# Altium schematic symbol library spacemonochrome-WR_TBL.SchLib: 1696 symbols (part 27 of 28)
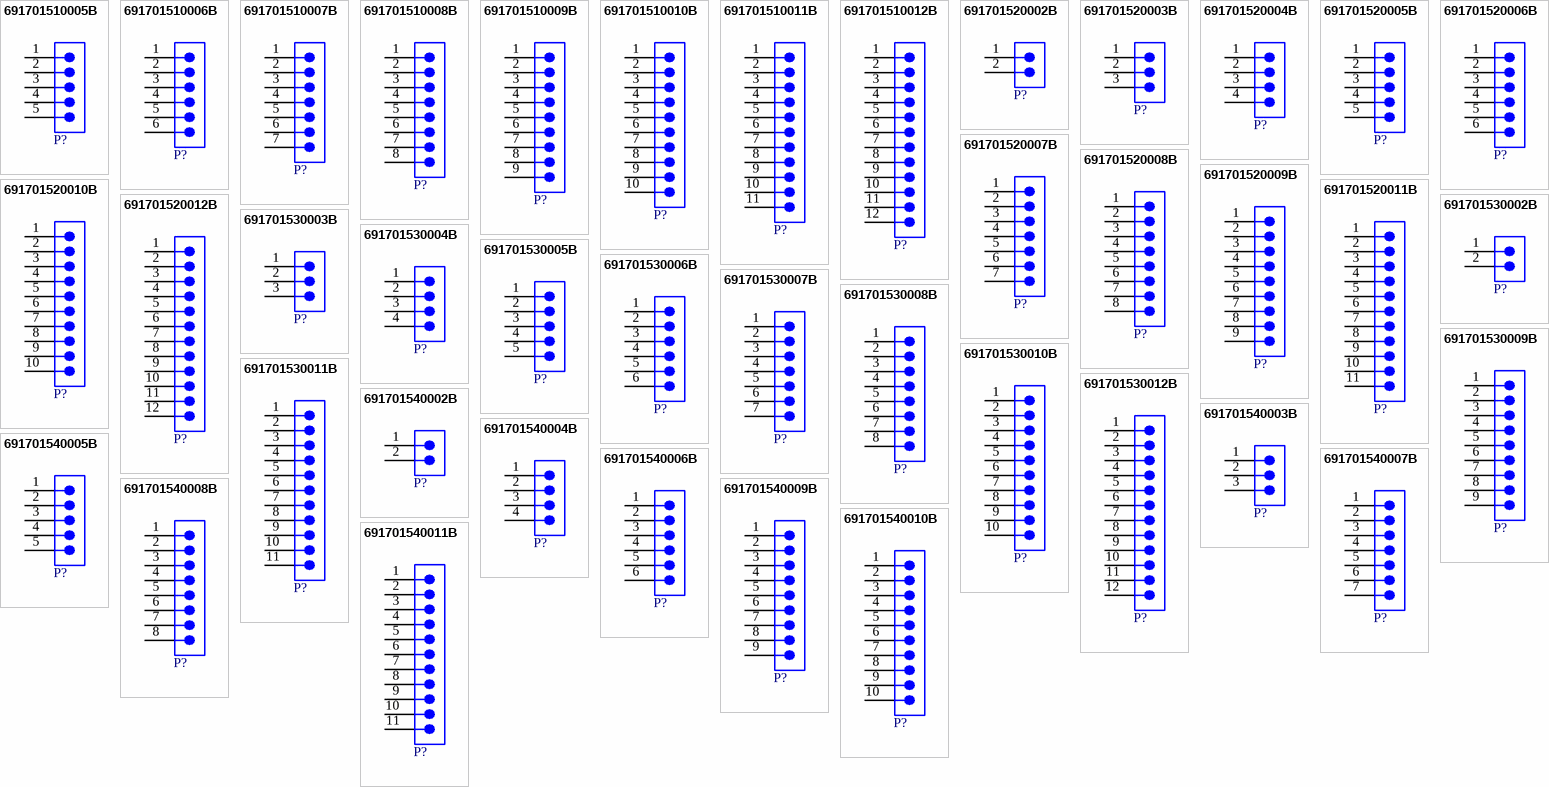
[diagram p68: symbols 691701510005B to 691701540011B]

## 691701520012B
designator P?  (value not drawn)
WR-TBL Series 7015B Close Vertical PCB Header with Flanges, SMT, pitch 5.08mm, 12p; Manufacturer: Wurth Elektronik; Modularity: No; Rated Current: 10A; Working Voltage: 300V; ComponentLink1Description: Website Link; ComponentLink1URL: https://www.we-online.com/redexpert/article/691701520012B?ad; ComponentLink2Description: Datasheet Link; ComponentLink2URL: https://www.we-online.com/redexpert/spec/691701520012B?ad; Manufacturer Part Number: 691701520012B; Category: Terminal Blocks; Match Code: WR-TBL; Mount: Surface Mount; Operating Temperature Max: 105°C; Operating Temperature Min: -40°C; Packaging: Box; Application: Pluggable; Number of Pins: 12; Number of Rows: 1; Orientation: Vertical; Pitch: 5.08mm
footprint 691701520012B
pins: 1, 2, 3, 4, 5, 6, 7, 8, 9, 10, 11, 12

## 691701530002B
designator P?  (value not drawn)
WR-TBL Series 7015B Open Horizontal PCB Header, SMT, pitch 5.08mm, 2p; Manufacturer: Wurth Elektronik; Modularity: No; Rated Current: 10A; Working Voltage: 300V; ComponentLink1Description: Website Link; ComponentLink1URL: https://www.we-online.com/redexpert/article/691701530002B?ad; ComponentLink2Description: Datasheet Link; ComponentLink2URL: https://www.we-online.com/redexpert/spec/691701530002B?ad; Manufacturer Part Number: 691701530002B; Category: Terminal Blocks; Match Code: WR-TBL; Mount: Surface Mount; Operating Temperature Max: 105°C; Operating Temperature Min: -40°C; Packaging: Box; Application: Pluggable; Number of Pins: 2; Number of Rows: 1; Orientation: Horizontal; Pitch: 5.08mm
footprint 691701530002B
pins: 1, 2

## 691701530003B
designator P?  (value not drawn)
WR-TBL Series 7015B Open Horizontal PCB Header, SMT, pitch 5.08mm, 3p; Manufacturer: Wurth Elektronik; Modularity: No; Rated Current: 10A; Working Voltage: 300V; ComponentLink1Description: Website Link; ComponentLink1URL: https://www.we-online.com/redexpert/article/691701530003B?ad; ComponentLink2Description: Datasheet Link; ComponentLink2URL: https://www.we-online.com/redexpert/spec/691701530003B?ad; Manufacturer Part Number: 691701530003B; Category: Terminal Blocks; Match Code: WR-TBL; Mount: Surface Mount; Operating Temperature Max: 105°C; Operating Temperature Min: -40°C; Packaging: Box; Application: Pluggable; Number of Pins: 3; Number of Rows: 1; Orientation: Horizontal; Pitch: 5.08mm
footprint 691701530003B
pins: 1, 2, 3

## 691701530004B
designator P?  (value not drawn)
WR-TBL Series 7015B Open Horizontal PCB Header, SMT, pitch 5.08mm, 4p; Manufacturer: Wurth Elektronik; Modularity: No; Rated Current: 10A; Working Voltage: 300V; ComponentLink1Description: Website Link; ComponentLink1URL: https://www.we-online.com/redexpert/article/691701530004B?ad; ComponentLink2Description: Datasheet Link; ComponentLink2URL: https://www.we-online.com/redexpert/spec/691701530004B?ad; Manufacturer Part Number: 691701530004B; Category: Terminal Blocks; Match Code: WR-TBL; Mount: Surface Mount; Operating Temperature Max: 105°C; Operating Temperature Min: -40°C; Packaging: Box; Application: Pluggable; Number of Pins: 4; Number of Rows: 1; Orientation: Horizontal; Pitch: 5.08mm
footprint 691701530004B
pins: 1, 2, 3, 4

## 691701530005B
designator P?  (value not drawn)
WR-TBL Series 7015B Open Horizontal PCB Header, SMT, pitch 5.08mm, 5p; Manufacturer: Wurth Elektronik; Modularity: No; Rated Current: 10A; Working Voltage: 300V; ComponentLink1Description: Website Link; ComponentLink1URL: https://www.we-online.com/redexpert/article/691701530005B?ad; ComponentLink2Description: Datasheet Link; ComponentLink2URL: https://www.we-online.com/redexpert/spec/691701530005B?ad; Manufacturer Part Number: 691701530005B; Category: Terminal Blocks; Match Code: WR-TBL; Mount: Surface Mount; Operating Temperature Max: 105°C; Operating Temperature Min: -40°C; Packaging: Box; Application: Pluggable; Number of Pins: 5; Number of Rows: 1; Orientation: Horizontal; Pitch: 5.08mm
footprint 691701530005B
pins: 1, 2, 3, 4, 5

## 691701530006B
designator P?  (value not drawn)
WR-TBL Series 7015B Open Horizontal PCB Header, SMT, pitch 5.08mm, 6p; Manufacturer: Wurth Elektronik; Modularity: No; Rated Current: 10A; Working Voltage: 300V; ComponentLink1Description: Website Link; ComponentLink1URL: https://www.we-online.com/redexpert/article/691701530006B?ad; ComponentLink2Description: Datasheet Link; ComponentLink2URL: https://www.we-online.com/redexpert/spec/691701530006B?ad; Manufacturer Part Number: 691701530006B; Category: Terminal Blocks; Match Code: WR-TBL; Mount: Surface Mount; Operating Temperature Max: 105°C; Operating Temperature Min: -40°C; Packaging: Box; Application: Pluggable; Number of Pins: 6; Number of Rows: 1; Orientation: Horizontal; Pitch: 5.08mm
footprint 691701530006B
pins: 1, 2, 3, 4, 5, 6

## 691701530007B
designator P?  (value not drawn)
WR-TBL Series 7015B Open Horizontal PCB Header, SMT, pitch 5.08mm, 7p; Manufacturer: Wurth Elektronik; Modularity: No; Rated Current: 10A; Working Voltage: 300V; ComponentLink1Description: Website Link; ComponentLink1URL: https://www.we-online.com/redexpert/article/691701530007B?ad; ComponentLink2Description: Datasheet Link; ComponentLink2URL: https://www.we-online.com/redexpert/spec/691701530007B?ad; Manufacturer Part Number: 691701530007B; Category: Terminal Blocks; Match Code: WR-TBL; Mount: Surface Mount; Operating Temperature Max: 105°C; Operating Temperature Min: -40°C; Packaging: Box; Application: Pluggable; Number of Pins: 7; Number of Rows: 1; Orientation: Horizontal; Pitch: 5.08mm
footprint 691701530007B
pins: 1, 2, 3, 4, 5, 6, 7

## 691701530008B
designator P?  (value not drawn)
WR-TBL Series 7015B Open Horizontal PCB Header, SMT, pitch 5.08mm, 8p; Manufacturer: Wurth Elektronik; Modularity: No; Rated Current: 10A; Working Voltage: 300V; ComponentLink1Description: Website Link; ComponentLink1URL: https://www.we-online.com/redexpert/article/691701530008B?ad; ComponentLink2Description: Datasheet Link; ComponentLink2URL: https://www.we-online.com/redexpert/spec/691701530008B?ad; Manufacturer Part Number: 691701530008B; Category: Terminal Blocks; Match Code: WR-TBL; Mount: Surface Mount; Operating Temperature Max: 105°C; Operating Temperature Min: -40°C; Packaging: Box; Application: Pluggable; Number of Pins: 8; Number of Rows: 1; Orientation: Horizontal; Pitch: 5.08mm
footprint 691701530008B
pins: 1, 2, 3, 4, 5, 6, 7, 8

## 691701530009B
designator P?  (value not drawn)
WR-TBL Series 7015B Open Horizontal PCB Header, SMT, pitch 5.08mm, 9p; Manufacturer: Wurth Elektronik; Modularity: No; Rated Current: 10A; Working Voltage: 300V; ComponentLink1Description: Website Link; ComponentLink1URL: https://www.we-online.com/redexpert/article/691701530009B?ad; ComponentLink2Description: Datasheet Link; ComponentLink2URL: https://www.we-online.com/redexpert/spec/691701530009B?ad; Manufacturer Part Number: 691701530009B; Category: Terminal Blocks; Match Code: WR-TBL; Mount: Surface Mount; Operating Temperature Max: 105°C; Operating Temperature Min: -40°C; Packaging: Box; Application: Pluggable; Number of Pins: 9; Number of Rows: 1; Orientation: Horizontal; Pitch: 5.08mm
footprint 691701530009B
pins: 1, 2, 3, 4, 5, 6, 7, 8, 9

## 691701530010B
designator P?  (value not drawn)
WR-TBL Series 7015B Open Horizontal PCB Header, SMT, pitch 5.08mm, 10p; Manufacturer: Wurth Elektronik; Modularity: No; Rated Current: 10A; Working Voltage: 300V; ComponentLink1Description: Website Link; ComponentLink1URL: https://www.we-online.com/redexpert/article/691701530010B?ad; ComponentLink2Description: Datasheet Link; ComponentLink2URL: https://www.we-online.com/redexpert/spec/691701530010B?ad; Manufacturer Part Number: 691701530010B; Category: Terminal Blocks; Match Code: WR-TBL; Mount: Surface Mount; Operating Temperature Max: 105°C; Operating Temperature Min: -40°C; Packaging: Box; Application: Pluggable; Number of Pins: 10; Number of Rows: 1; Orientation: Horizontal; Pitch: 5.08mm
footprint 691701530010B
pins: 1, 2, 3, 4, 5, 6, 7, 8, 9, 10

## 691701530011B
designator P?  (value not drawn)
WR-TBL Series 7015B Open Horizontal PCB Header, SMT, pitch 5.08mm, 11p; Manufacturer: Wurth Elektronik; Modularity: No; Rated Current: 10A; Working Voltage: 300V; ComponentLink1Description: Website Link; ComponentLink1URL: https://www.we-online.com/redexpert/article/691701530011B?ad; ComponentLink2Description: Datasheet Link; ComponentLink2URL: https://www.we-online.com/redexpert/spec/691701530011B?ad; Manufacturer Part Number: 691701530011B; Category: Terminal Blocks; Match Code: WR-TBL; Mount: Surface Mount; Operating Temperature Max: 105°C; Operating Temperature Min: -40°C; Packaging: Box; Application: Pluggable; Number of Pins: 11; Number of Rows: 1; Orientation: Horizontal; Pitch: 5.08mm
footprint 691701530011B
pins: 1, 2, 3, 4, 5, 6, 7, 8, 9, 10, 11

## 691701530012B
designator P?  (value not drawn)
WR-TBL Series 7015B Open Horizontal PCB Header, SMT, pitch 5.08mm, 12p; Manufacturer: Wurth Elektronik; Modularity: No; Rated Current: 10A; Working Voltage: 300V; ComponentLink1Description: Website Link; ComponentLink1URL: https://www.we-online.com/redexpert/article/691701530012B?ad; ComponentLink2Description: Datasheet Link; ComponentLink2URL: https://www.we-online.com/redexpert/spec/691701530012B?ad; Manufacturer Part Number: 691701530012B; Category: Terminal Blocks; Match Code: WR-TBL; Mount: Surface Mount; Operating Temperature Max: 105°C; Operating Temperature Min: -40°C; Packaging: Box; Application: Pluggable; Number of Pins: 12; Number of Rows: 1; Orientation: Horizontal; Pitch: 5.08mm
footprint 691701530012B
pins: 1, 2, 3, 4, 5, 6, 7, 8, 9, 10, 11, 12

## 691701540002B
designator P?  (value not drawn)
WR-TBL Series 7015B Close Horizontal PCB Header, SMT, pitch 5.08mm, 2p; Manufacturer: Wurth Elektronik; Modularity: No; Rated Current: 10A; Working Voltage: 300V; ComponentLink1Description: Website Link; ComponentLink1URL: https://www.we-online.com/redexpert/article/691701540002B?ad; ComponentLink2Description: Datasheet Link; ComponentLink2URL: https://www.we-online.com/redexpert/spec/691701540002B?ad; Manufacturer Part Number: 691701540002B; Category: Terminal Blocks; Match Code: WR-TBL; Mount: Surface Mount; Operating Temperature Max: 105°C; Operating Temperature Min: -40°C; Packaging: Box; Application: Pluggable; Number of Pins: 2; Number of Rows: 1; Orientation: Horizontal; Pitch: 5.08mm
footprint 691701540002B
pins: 1, 2

## 691701540003B
designator P?  (value not drawn)
WR-TBL Series 7015B Close Horizontal PCB Header, SMT, pitch 5.08mm, 3p; Manufacturer: Wurth Elektronik; Modularity: No; Rated Current: 10A; Working Voltage: 300V; ComponentLink1Description: Website Link; ComponentLink1URL: https://www.we-online.com/redexpert/article/691701540003B?ad; ComponentLink2Description: Datasheet Link; ComponentLink2URL: https://www.we-online.com/redexpert/spec/691701540003B?ad; Manufacturer Part Number: 691701540003B; Category: Terminal Blocks; Match Code: WR-TBL; Mount: Surface Mount; Operating Temperature Max: 105°C; Operating Temperature Min: -40°C; Packaging: Box; Application: Pluggable; Number of Pins: 3; Number of Rows: 1; Orientation: Horizontal; Pitch: 5.08mm
footprint 691701540003B
pins: 1, 2, 3

## 691701540004B
designator P?  (value not drawn)
WR-TBL Series 7015B Close Horizontal PCB Header, SMT, pitch 5.08mm, 4p; Manufacturer: Wurth Elektronik; Modularity: No; Rated Current: 10A; Working Voltage: 300V; ComponentLink1Description: Website Link; ComponentLink1URL: https://www.we-online.com/redexpert/article/691701540004B?ad; ComponentLink2Description: Datasheet Link; ComponentLink2URL: https://www.we-online.com/redexpert/spec/691701540004B?ad; Manufacturer Part Number: 691701540004B; Category: Terminal Blocks; Match Code: WR-TBL; Mount: Surface Mount; Operating Temperature Max: 105°C; Operating Temperature Min: -40°C; Packaging: Box; Application: Pluggable; Number of Pins: 4; Number of Rows: 1; Orientation: Horizontal; Pitch: 5.08mm
footprint 691701540004B
pins: 1, 2, 3, 4

## 691701540005B
designator P?  (value not drawn)
WR-TBL Series 7015B Close Horizontal PCB Header, SMT, pitch 5.08mm, 5p; Manufacturer: Wurth Elektronik; Modularity: No; Rated Current: 10A; Working Voltage: 300V; ComponentLink1Description: Website Link; ComponentLink1URL: https://www.we-online.com/redexpert/article/691701540005B?ad; ComponentLink2Description: Datasheet Link; ComponentLink2URL: https://www.we-online.com/redexpert/spec/691701540005B?ad; Manufacturer Part Number: 691701540005B; Category: Terminal Blocks; Match Code: WR-TBL; Mount: Surface Mount; Operating Temperature Max: 105°C; Operating Temperature Min: -40°C; Packaging: Box; Application: Pluggable; Number of Pins: 5; Number of Rows: 1; Orientation: Horizontal; Pitch: 5.08mm
footprint 691701540005B
pins: 1, 2, 3, 4, 5

## 691701540006B
designator P?  (value not drawn)
WR-TBL Series 7015B Close Horizontal PCB Header, SMT, pitch 5.08mm, 6p; Manufacturer: Wurth Elektronik; Modularity: No; Rated Current: 10A; Working Voltage: 300V; ComponentLink1Description: Website Link; ComponentLink1URL: https://www.we-online.com/redexpert/article/691701540006B?ad; ComponentLink2Description: Datasheet Link; ComponentLink2URL: https://www.we-online.com/redexpert/spec/691701540006B?ad; Manufacturer Part Number: 691701540006B; Category: Terminal Blocks; Match Code: WR-TBL; Mount: Surface Mount; Operating Temperature Max: 105°C; Operating Temperature Min: -40°C; Packaging: Box; Application: Pluggable; Number of Pins: 6; Number of Rows: 1; Orientation: Horizontal; Pitch: 5.08mm
footprint 691701540006B
pins: 1, 2, 3, 4, 5, 6

## 691701540007B
designator P?  (value not drawn)
WR-TBL Series 7015B Close Horizontal PCB Header, SMT, pitch 5.08mm, 7p; Manufacturer: Wurth Elektronik; Modularity: No; Rated Current: 10A; Working Voltage: 300V; ComponentLink1Description: Website Link; ComponentLink1URL: https://www.we-online.com/redexpert/article/691701540007B?ad; ComponentLink2Description: Datasheet Link; ComponentLink2URL: https://www.we-online.com/redexpert/spec/691701540007B?ad; Manufacturer Part Number: 691701540007B; Category: Terminal Blocks; Match Code: WR-TBL; Mount: Surface Mount; Operating Temperature Max: 105°C; Operating Temperature Min: -40°C; Packaging: Box; Application: Pluggable; Number of Pins: 7; Number of Rows: 1; Orientation: Horizontal; Pitch: 5.08mm
footprint 691701540007B
pins: 1, 2, 3, 4, 5, 6, 7

## 691701540008B
designator P?  (value not drawn)
WR-TBL Series 7015B Close Horizontal PCB Header, SMT, pitch 5.08mm, 8p; Manufacturer: Wurth Elektronik; Modularity: No; Rated Current: 10A; Working Voltage: 300V; ComponentLink1Description: Website Link; ComponentLink1URL: https://www.we-online.com/redexpert/article/691701540008B?ad; ComponentLink2Description: Datasheet Link; ComponentLink2URL: https://www.we-online.com/redexpert/spec/691701540008B?ad; Manufacturer Part Number: 691701540008B; Category: Terminal Blocks; Match Code: WR-TBL; Mount: Surface Mount; Operating Temperature Max: 105°C; Operating Temperature Min: -40°C; Packaging: Box; Application: Pluggable; Number of Pins: 8; Number of Rows: 1; Orientation: Horizontal; Pitch: 5.08mm
footprint 691701540008B
pins: 1, 2, 3, 4, 5, 6, 7, 8

## 691701540009B
designator P?  (value not drawn)
WR-TBL Series 7015B Close Horizontal PCB Header, SMT, pitch 5.08mm, 9p; Manufacturer: Wurth Elektronik; Modularity: No; Rated Current: 10A; Working Voltage: 300V; ComponentLink1Description: Website Link; ComponentLink1URL: https://www.we-online.com/redexpert/article/691701540009B?ad; ComponentLink2Description: Datasheet Link; ComponentLink2URL: https://www.we-online.com/redexpert/spec/691701540009B?ad; Manufacturer Part Number: 691701540009B; Category: Terminal Blocks; Match Code: WR-TBL; Mount: Surface Mount; Operating Temperature Max: 105°C; Operating Temperature Min: -40°C; Packaging: Box; Application: Pluggable; Number of Pins: 9; Number of Rows: 1; Orientation: Horizontal; Pitch: 5.08mm
footprint 691701540009B
pins: 1, 2, 3, 4, 5, 6, 7, 8, 9

## 691701540010B
designator P?  (value not drawn)
WR-TBL Series 7015B Close Horizontal PCB Header, SMT, pitch 5.08mm, 10p; Manufacturer: Wurth Elektronik; Modularity: No; Rated Current: 10A; Working Voltage: 300V; ComponentLink1Description: Website Link; ComponentLink1URL: https://www.we-online.com/redexpert/article/691701540010B?ad; ComponentLink2Description: Datasheet Link; ComponentLink2URL: https://www.we-online.com/redexpert/spec/691701540010B?ad; Manufacturer Part Number: 691701540010B; Category: Terminal Blocks; Match Code: WR-TBL; Mount: Surface Mount; Operating Temperature Max: 105°C; Operating Temperature Min: -40°C; Packaging: Box; Application: Pluggable; Number of Pins: 10; Number of Rows: 1; Orientation: Horizontal; Pitch: 5.08mm
footprint 691701540010B
pins: 1, 2, 3, 4, 5, 6, 7, 8, 9, 10

## 691701540011B
designator P?  (value not drawn)
WR-TBL Series 7015B Close Horizontal PCB Header, SMT, pitch 5.08mm, 11p; Manufacturer: Wurth Elektronik; Modularity: No; Rated Current: 10A; Working Voltage: 300V; ComponentLink1Description: Website Link; ComponentLink1URL: https://www.we-online.com/redexpert/article/691701540011B?ad; ComponentLink2Description: Datasheet Link; ComponentLink2URL: https://www.we-online.com/redexpert/spec/691701540011B?ad; Manufacturer Part Number: 691701540011B; Category: Terminal Blocks; Match Code: WR-TBL; Mount: Surface Mount; Operating Temperature Max: 105°C; Operating Temperature Min: -40°C; Packaging: Box; Application: Pluggable; Number of Pins: 11; Number of Rows: 1; Orientation: Horizontal; Pitch: 5.08mm
footprint 691701540011B
pins: 1, 2, 3, 4, 5, 6, 7, 8, 9, 10, 11

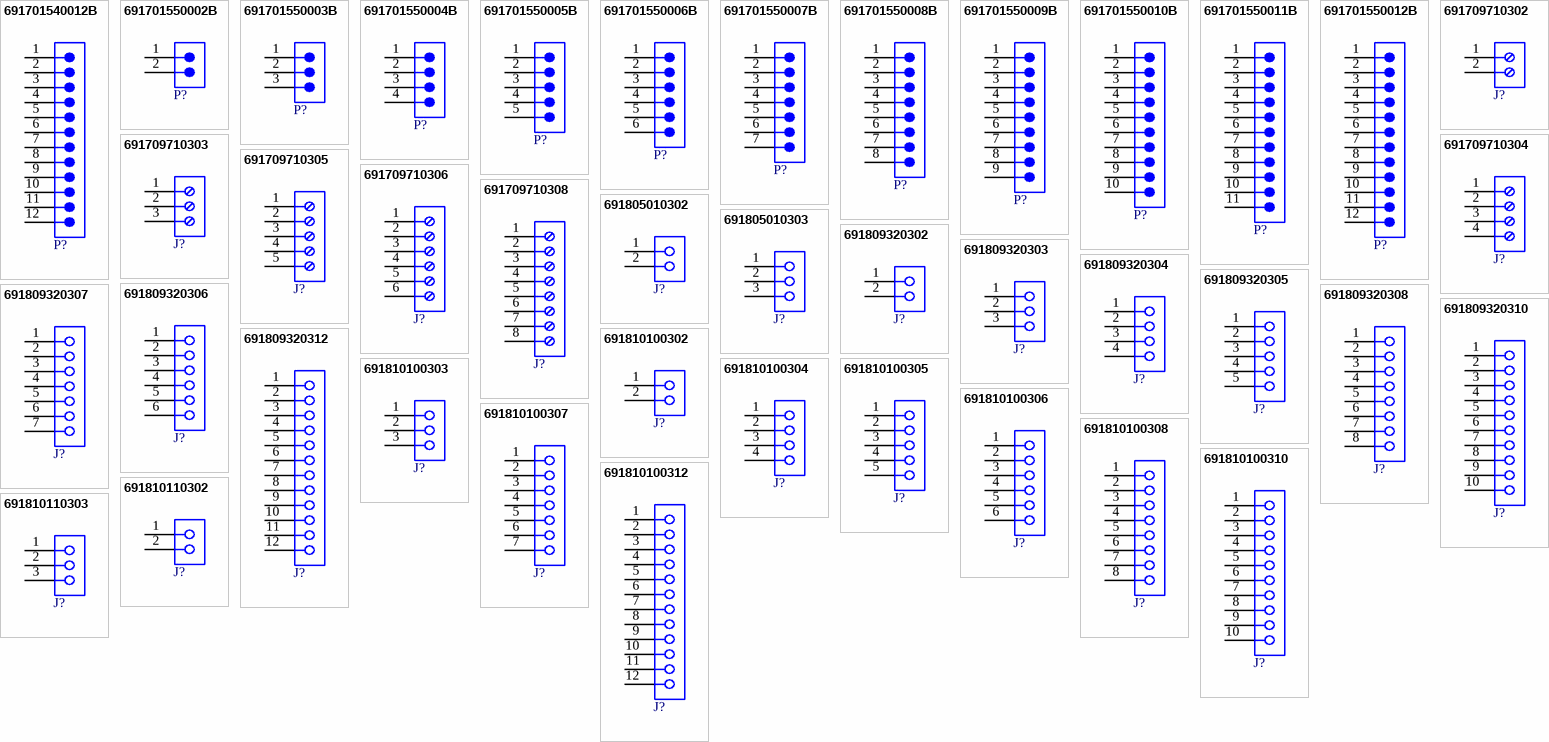
[diagram p41: symbols 691701540012B to 691810110303]

## 691701540012B
designator P?  (value not drawn)
WR-TBL Series 7015B Close Horizontal PCB Header, SMT, pitch 5.08mm, 12p; Manufacturer: Wurth Elektronik; Modularity: No; Rated Current: 10A; Working Voltage: 300V; ComponentLink1Description: Website Link; ComponentLink1URL: https://www.we-online.com/redexpert/article/691701540012B?ad; ComponentLink2Description: Datasheet Link; ComponentLink2URL: https://www.we-online.com/redexpert/spec/691701540012B?ad; Manufacturer Part Number: 691701540012B; Category: Terminal Blocks; Match Code: WR-TBL; Mount: Surface Mount; Operating Temperature Max: 105°C; Operating Temperature Min: -40°C; Packaging: Box; Application: Pluggable; Number of Pins: 12; Number of Rows: 1; Orientation: Horizontal; Pitch: 5.08mm
footprint 691701540012B
pins: 1, 2, 3, 4, 5, 6, 7, 8, 9, 10, 11, 12

## 691701550002B
designator P?  (value not drawn)
WR-TBL Series 7015B Closed Horizontal PCB Header with Flanges, SMT, pitch 5.08mm, 2p; Manufacturer: Wurth Elektronik; Modularity: No; Rated Current: 10A; Working Voltage: 300V; ComponentLink1Description: Website Link; ComponentLink1URL: https://www.we-online.com/redexpert/article/691701550002B?ad; ComponentLink2Description: Datasheet Link; ComponentLink2URL: https://www.we-online.com/redexpert/spec/691701550002B?ad; Manufacturer Part Number: 691701550002B; Category: Terminal Blocks; Match Code: WR-TBL; Mount: Surface Mount; Operating Temperature Max: 105°C; Operating Temperature Min: -40°C; Packaging: Box; Application: Pluggable; Number of Pins: 2; Number of Rows: 1; Orientation: Horizontal; Pitch: 5.08mm
footprint 691701550002B
pins: 1, 2

## 691701550003B
designator P?  (value not drawn)
WR-TBL Series 7015B Closed Horizontal PCB Header with Flanges, SMT, pitch 5.08mm, 3p; Manufacturer: Wurth Elektronik; Modularity: No; Rated Current: 10A; Working Voltage: 300V; ComponentLink1Description: Website Link; ComponentLink1URL: https://www.we-online.com/redexpert/article/691701550003B?ad; ComponentLink2Description: Datasheet Link; ComponentLink2URL: https://www.we-online.com/redexpert/spec/691701550003B?ad; Manufacturer Part Number: 691701550003B; Category: Terminal Blocks; Match Code: WR-TBL; Mount: Surface Mount; Operating Temperature Max: 105°C; Operating Temperature Min: -40°C; Packaging: Box; Application: Pluggable; Number of Pins: 3; Number of Rows: 1; Orientation: Horizontal; Pitch: 5.08mm
footprint 691701550003B
pins: 1, 2, 3

## 691701550004B
designator P?  (value not drawn)
WR-TBL Series 7015B Closed Horizontal PCB Header with Flanges, SMT, pitch 5.08mm, 4p; Manufacturer: Wurth Elektronik; Modularity: No; Rated Current: 10A; Working Voltage: 300V; ComponentLink1Description: Website Link; ComponentLink1URL: https://www.we-online.com/redexpert/article/691701550004B?ad; ComponentLink2Description: Datasheet Link; ComponentLink2URL: https://www.we-online.com/redexpert/spec/691701550004B?ad; Manufacturer Part Number: 691701550004B; Category: Terminal Blocks; Match Code: WR-TBL; Mount: Surface Mount; Operating Temperature Max: 105°C; Operating Temperature Min: -40°C; Packaging: Box; Application: Pluggable; Number of Pins: 4; Number of Rows: 1; Orientation: Horizontal; Pitch: 5.08mm
footprint 691701550004B
pins: 1, 2, 3, 4

## 691701550005B
designator P?  (value not drawn)
WR-TBL Series 7015B Closed Horizontal PCB Header with Flanges, SMT, pitch 5.08mm, 5p; Manufacturer: Wurth Elektronik; Modularity: No; Rated Current: 10A; Working Voltage: 300V; ComponentLink1Description: Website Link; ComponentLink1URL: https://www.we-online.com/redexpert/article/691701550005B?ad; ComponentLink2Description: Datasheet Link; ComponentLink2URL: https://www.we-online.com/redexpert/spec/691701550005B?ad; Manufacturer Part Number: 691701550005B; Category: Terminal Blocks; Match Code: WR-TBL; Mount: Surface Mount; Operating Temperature Max: 105°C; Operating Temperature Min: -40°C; Packaging: Box; Application: Pluggable; Number of Pins: 5; Number of Rows: 1; Orientation: Horizontal; Pitch: 5.08mm
footprint 691701550005B
pins: 1, 2, 3, 4, 5

## 691701550006B
designator P?  (value not drawn)
WR-TBL Series 7015B Closed Horizontal PCB Header with Flanges, SMT, pitch 5.08mm, 6p; Manufacturer: Wurth Elektronik; Modularity: No; Rated Current: 10A; Working Voltage: 300V; ComponentLink1Description: Website Link; ComponentLink1URL: https://www.we-online.com/redexpert/article/691701550006B?ad; ComponentLink2Description: Datasheet Link; ComponentLink2URL: https://www.we-online.com/redexpert/spec/691701550006B?ad; Manufacturer Part Number: 691701550006B; Category: Terminal Blocks; Match Code: WR-TBL; Mount: Surface Mount; Operating Temperature Max: 105°C; Operating Temperature Min: -40°C; Packaging: Box; Application: Pluggable; Number of Pins: 6; Number of Rows: 1; Orientation: Horizontal; Pitch: 5.08mm
footprint 691701550006B
pins: 1, 2, 3, 4, 5, 6

## 691701550007B
designator P?  (value not drawn)
WR-TBL Series 7015B Closed Horizontal PCB Header with Flanges, SMT, pitch 5.08mm, 7p; Manufacturer: Wurth Elektronik; Modularity: No; Rated Current: 10A; Working Voltage: 300V; ComponentLink1Description: Website Link; ComponentLink1URL: https://www.we-online.com/redexpert/article/691701550007B?ad; ComponentLink2Description: Datasheet Link; ComponentLink2URL: https://www.we-online.com/redexpert/spec/691701550007B?ad; Manufacturer Part Number: 691701550007B; Category: Terminal Blocks; Match Code: WR-TBL; Mount: Surface Mount; Operating Temperature Max: 105°C; Operating Temperature Min: -40°C; Packaging: Box; Application: Pluggable; Number of Pins: 7; Number of Rows: 1; Orientation: Horizontal; Pitch: 5.08mm
footprint 691701550007B
pins: 1, 2, 3, 4, 5, 6, 7

## 691701550008B
designator P?  (value not drawn)
WR-TBL Series 7015B Closed Horizontal PCB Header with Flanges, SMT, pitch 5.08mm, 8p; Manufacturer: Wurth Elektronik; Modularity: No; Rated Current: 10A; Working Voltage: 300V; ComponentLink1Description: Website Link; ComponentLink1URL: https://www.we-online.com/redexpert/article/691701550008B?ad; ComponentLink2Description: Datasheet Link; ComponentLink2URL: https://www.we-online.com/redexpert/spec/691701550008B?ad; Manufacturer Part Number: 691701550008B; Category: Terminal Blocks; Match Code: WR-TBL; Mount: Surface Mount; Operating Temperature Max: 105°C; Operating Temperature Min: -40°C; Packaging: Box; Application: Pluggable; Number of Pins: 8; Number of Rows: 1; Orientation: Horizontal; Pitch: 5.08mm
footprint 691701550008B
pins: 1, 2, 3, 4, 5, 6, 7, 8

## 691701550009B
designator P?  (value not drawn)
WR-TBL Series 7015B Closed Horizontal PCB Header with Flanges, SMT, pitch 5.08mm, 9p; Manufacturer: Wurth Elektronik; Modularity: No; Rated Current: 10A; Working Voltage: 300V; ComponentLink1Description: Website Link; ComponentLink1URL: https://www.we-online.com/redexpert/article/691701550009B?ad; ComponentLink2Description: Datasheet Link; ComponentLink2URL: https://www.we-online.com/redexpert/spec/691701550009B?ad; Manufacturer Part Number: 691701550009B; Category: Terminal Blocks; Match Code: WR-TBL; Mount: Surface Mount; Operating Temperature Max: 105°C; Operating Temperature Min: -40°C; Packaging: Box; Application: Pluggable; Number of Pins: 9; Number of Rows: 1; Orientation: Horizontal; Pitch: 5.08mm
footprint 691701550009B
pins: 1, 2, 3, 4, 5, 6, 7, 8, 9

## 691701550010B
designator P?  (value not drawn)
WR-TBL Series 7015B Closed Horizontal PCB Header with Flanges, SMT, pitch 5.08mm, 10p; Manufacturer: Wurth Elektronik; Modularity: No; Rated Current: 10A; Working Voltage: 300V; ComponentLink1Description: Website Link; ComponentLink1URL: https://www.we-online.com/redexpert/article/691701550010B?ad; ComponentLink2Description: Datasheet Link; ComponentLink2URL: https://www.we-online.com/redexpert/spec/691701550010B?ad; Manufacturer Part Number: 691701550010B; Category: Terminal Blocks; Match Code: WR-TBL; Mount: Surface Mount; Operating Temperature Max: 105°C; Operating Temperature Min: -40°C; Packaging: Box; Application: Pluggable; Number of Pins: 10; Number of Rows: 1; Orientation: Horizontal; Pitch: 5.08mm
footprint 691701550010B
pins: 1, 2, 3, 4, 5, 6, 7, 8, 9, 10

## 691701550011B
designator P?  (value not drawn)
WR-TBL Series 7015B Closed Horizontal PCB Header with Flanges, SMT, pitch 5.08mm, 11p; Manufacturer: Wurth Elektronik; Modularity: No; Rated Current: 10A; Working Voltage: 300V; ComponentLink1Description: Website Link; ComponentLink1URL: https://www.we-online.com/redexpert/article/691701550011B?ad; ComponentLink2Description: Datasheet Link; ComponentLink2URL: https://www.we-online.com/redexpert/spec/691701550011B?ad; Manufacturer Part Number: 691701550011B; Category: Terminal Blocks; Match Code: WR-TBL; Mount: Surface Mount; Operating Temperature Max: 105°C; Operating Temperature Min: -40°C; Packaging: Box; Application: Pluggable; Number of Pins: 11; Number of Rows: 1; Orientation: Horizontal; Pitch: 5.08mm
footprint 691701550011B
pins: 1, 2, 3, 4, 5, 6, 7, 8, 9, 10, 11

## 691701550012B
designator P?  (value not drawn)
WR-TBL Series 7015B Closed Horizontal PCB Header with Flanges, SMT, pitch 5.08mm, 12p; Manufacturer: Wurth Elektronik; Modularity: No; Rated Current: 10A; Working Voltage: 300V; ComponentLink1Description: Website Link; ComponentLink1URL: https://www.we-online.com/redexpert/article/691701550012B?ad; ComponentLink2Description: Datasheet Link; ComponentLink2URL: https://www.we-online.com/redexpert/spec/691701550012B?ad; Manufacturer Part Number: 691701550012B; Category: Terminal Blocks; Match Code: WR-TBL; Mount: Surface Mount; Operating Temperature Max: 105°C; Operating Temperature Min: -40°C; Packaging: Box; Application: Pluggable; Number of Pins: 12; Number of Rows: 1; Orientation: Horizontal; Pitch: 5.08mm
footprint 691701550012B
pins: 1, 2, 3, 4, 5, 6, 7, 8, 9, 10, 11, 12

## 691709710302
designator J?  (value not drawn)
WR-TBL Series 7097 Horizontal Entry, SMT, pitch 5mm, 2p; Manufacturer: Wurth Elektronik; Modularity: No; Rated Current: 6A; Working Voltage: 300V; ComponentLink1Description: Website Link; ComponentLink1URL: https://www.we-online.com/redexpert/article/691709710302?ad; ComponentLink2Description: Datasheet Link; ComponentLink2URL: https://www.we-online.com/redexpert/spec/691709710302?ad; Manufacturer Part Number: 691709710302; Category: Terminal Blocks; Match Code: WR-TBL; Mount: Surface Mount; Operating Temperature Max: 130°C; Operating Temperature Min: -40°C; Packaging: Tape and Reel; Application: Rising Cage Clamp; Number of Pins: 2; Number of Rows: 1; Orientation: Horizontal; Pitch: 5mm
footprint 691709710302
pins: 1, 2

## 691709710303
designator J?  (value not drawn)
WR-TBL Series 7097 Horizontal Entry, SMT, pitch 5mm, 3p; Manufacturer: Wurth Elektronik; Modularity: No; Rated Current: 6A; Working Voltage: 300V; ComponentLink1Description: Website Link; ComponentLink1URL: https://www.we-online.com/redexpert/article/691709710303?ad; ComponentLink2Description: Datasheet Link; ComponentLink2URL: https://www.we-online.com/redexpert/spec/691709710303?ad; Manufacturer Part Number: 691709710303; Category: Terminal Blocks; Match Code: WR-TBL; Mount: Surface Mount; Operating Temperature Max: 130°C; Operating Temperature Min: -40°C; Packaging: Tape and Reel; Application: Rising Cage Clamp; Number of Pins: 3; Number of Rows: 1; Orientation: Horizontal; Pitch: 5mm
footprint 691709710303
pins: 1, 2, 3

## 691709710304
designator J?  (value not drawn)
WR-TBL Series 7097 Horizontal Entry, SMT, pitch 5mm, 4p; Manufacturer: Wurth Elektronik; Modularity: No; Rated Current: 6A; Working Voltage: 300V; ComponentLink1Description: Website Link; ComponentLink1URL: https://www.we-online.com/redexpert/article/691709710304?ad; ComponentLink2Description: Datasheet Link; ComponentLink2URL: https://www.we-online.com/redexpert/spec/691709710304?ad; Manufacturer Part Number: 691709710304; Category: Terminal Blocks; Match Code: WR-TBL; Mount: Surface Mount; Operating Temperature Max: 130°C; Operating Temperature Min: -40°C; Packaging: Tape and Reel; Application: Rising Cage Clamp; Number of Pins: 4; Number of Rows: 1; Orientation: Horizontal; Pitch: 5mm
footprint 691709710304
pins: 1, 2, 3, 4

## 691709710305
designator J?  (value not drawn)
WR-TBL Series 7097 Horizontal Entry, SMT, pitch 5mm, 5p; Manufacturer: Wurth Elektronik; Modularity: No; Rated Current: 6A; Working Voltage: 300V; ComponentLink1Description: Website Link; ComponentLink1URL: https://www.we-online.com/redexpert/article/691709710305?ad; ComponentLink2Description: Datasheet Link; ComponentLink2URL: https://www.we-online.com/redexpert/spec/691709710305?ad; Manufacturer Part Number: 691709710305; Category: Terminal Blocks; Match Code: WR-TBL; Mount: Surface Mount; Operating Temperature Max: 130°C; Operating Temperature Min: -40°C; Packaging: Tape and Reel; Application: Rising Cage Clamp; Number of Pins: 5; Number of Rows: 1; Orientation: Horizontal; Pitch: 5mm
footprint 691709710305
pins: 1, 2, 3, 4, 5

## 691709710306
designator J?  (value not drawn)
WR-TBL Series 7097 Horizontal Entry, SMT, pitch 5mm, 6p; Manufacturer: Wurth Elektronik; Modularity: No; Rated Current: 6A; Working Voltage: 300V; ComponentLink1Description: Website Link; ComponentLink1URL: https://www.we-online.com/redexpert/article/691709710306?ad; ComponentLink2Description: Datasheet Link; ComponentLink2URL: https://www.we-online.com/redexpert/spec/691709710306?ad; Manufacturer Part Number: 691709710306; Category: Terminal Blocks; Match Code: WR-TBL; Mount: Surface Mount; Operating Temperature Max: 130°C; Operating Temperature Min: -40°C; Packaging: Tape and Reel; Application: Rising Cage Clamp; Number of Pins: 6; Number of Rows: 1; Orientation: Horizontal; Pitch: 5mm
footprint 691709710306
pins: 1, 2, 3, 4, 5, 6

## 691709710308
designator J?  (value not drawn)
WR-TBL Series 7097 Horizontal Entry, SMT, pitch 5mm, 8p; Manufacturer: Wurth Elektronik; Modularity: No; Rated Current: 6A; Working Voltage: 300V; ComponentLink1Description: Website Link; ComponentLink1URL: https://www.we-online.com/redexpert/article/691709710308?ad; ComponentLink2Description: Datasheet Link; ComponentLink2URL: https://www.we-online.com/redexpert/spec/691709710308?ad; Manufacturer Part Number: 691709710308; Category: Terminal Blocks; Match Code: WR-TBL; Mount: Surface Mount; Operating Temperature Max: 130°C; Operating Temperature Min: -40°C; Packaging: Tape and Reel; Application: Rising Cage Clamp; Number of Pins: 8; Number of Rows: 1; Orientation: Horizontal; Pitch: 5mm
footprint 691709710308
pins: 1, 2, 3, 4, 5, 6, 7, 8

## 691805010302
designator J?  (value not drawn)
WR-TBL Series 7097 Horizontal Entry, SMT, pitch 2.5mm, 2p; Manufacturer: Wurth Elektronik; Modularity: No; Rated Current: 6A; Working Voltage: 300V; ComponentLink1Description: Website Link; ComponentLink1URL: https://www.we-online.com/redexpert/article/691805010302?ad; ComponentLink2Description: Datasheet Link; ComponentLink2URL: https://www.we-online.com/redexpert/spec/691805010302?ad; Manufacturer Part Number: 691805010302; Category: Terminal Blocks; Match Code: WR-TBL; Mount: Surface Mount; Operating Temperature Max: 130°C; Operating Temperature Min: -45°C; Packaging: Tape and Reel; Application: Screwless; Number of Pins: 2; Number of Rows: 1; Orientation: Horizontal; Pitch: 2.5mm
footprint 691805010302
pins: 1, 2

## 691805010303
designator J?  (value not drawn)
WR-TBL Series 7097 Horizontal Entry, SMT, pitch 2.5mm, 3p; Manufacturer: Wurth Elektronik; Modularity: No; Rated Current: 6A; Working Voltage: 300V; ComponentLink1Description: Website Link; ComponentLink1URL: https://www.we-online.com/redexpert/article/691805010303?ad; ComponentLink2Description: Datasheet Link; ComponentLink2URL: https://www.we-online.com/redexpert/spec/691805010303?ad; Manufacturer Part Number: 691805010303; Category: Terminal Blocks; Match Code: WR-TBL; Mount: Surface Mount; Operating Temperature Max: 130°C; Operating Temperature Min: -45°C; Packaging: Tape and Reel; Application: Screwless; Number of Pins: 3; Number of Rows: 1; Orientation: Horizontal; Pitch: 2.5mm
footprint 691805010303
pins: 1, 2, 3

## 691809320302
designator J?  (value not drawn)
WR-TBL Series 8093 Screwless Push In 45° cable entry, THR, pitch 3.81mm, 2p; Manufacturer: Wurth Elektronik; Modularity: Yes; Manufacturer Part Number: 691809320302; Category: Terminal Blocks; Match Code: WR-TBL; ComponentLink1Description: Website Link; ComponentLink1URL: https://www.we-online.com/redexpert/article/691809320302?ad; ComponentLink2Description: Datasheet Link; ComponentLink2URL: https://www.we-online.com/redexpert/spec/691809320302?ad; Mount: Through Hole Reflow; Operating Temperature Max: 115°C; Operating Temperature Min: -40°C; Packaging: Tape and Reel; Application: Screwless Push In; Number of Pins: 2; Number of Rows: 1; Orientation: 45° Cable Entry; Pitch: 3.81mm
footprint 691809320302
pins: 1, 2

## 691809320303
designator J?  (value not drawn)
WR-TBL Series 8093 Screwless Push In 45° cable entry, THR, pitch 3.81mm, 3p; Manufacturer: Wurth Elektronik; Modularity: Yes; Manufacturer Part Number: 691809320303; Category: Terminal Blocks; Match Code: WR-TBL; ComponentLink1Description: Website Link; ComponentLink1URL: https://www.we-online.com/redexpert/article/691809320303?ad; ComponentLink2Description: Datasheet Link; ComponentLink2URL: https://www.we-online.com/redexpert/spec/691809320303?ad; Mount: Through Hole Reflow; Operating Temperature Max: 115°C; Operating Temperature Min: -40°C; Packaging: Tape and Reel; Application: Screwless Push In; Number of Pins: 3; Number of Rows: 1; Orientation: 45° Cable Entry; Pitch: 3.81mm
footprint 691809320303
pins: 1, 2, 3

## 691809320304
designator J?  (value not drawn)
WR-TBL Series 8093 Screwless Push In 45° cable entry, THR, pitch 3.81mm, 4p; Manufacturer: Wurth Elektronik; Modularity: Yes; Manufacturer Part Number: 691809320304; Category: Terminal Blocks; Match Code: WR-TBL; ComponentLink1Description: Website Link; ComponentLink1URL: https://www.we-online.com/redexpert/article/691809320304?ad; ComponentLink2Description: Datasheet Link; ComponentLink2URL: https://www.we-online.com/redexpert/spec/691809320304?ad; Mount: Through Hole Reflow; Operating Temperature Max: 115°C; Operating Temperature Min: -40°C; Packaging: Tape and Reel; Application: Screwless Push In; Number of Pins: 4; Number of Rows: 1; Orientation: 45° Cable Entry; Pitch: 3.81mm
footprint 691809320304
pins: 1, 2, 3, 4

## 691809320305
designator J?  (value not drawn)
WR-TBL Series 8093 Screwless Push In 45° cable entry, THR, pitch 3.81mm, 5p; Manufacturer: Wurth Elektronik; Modularity: Yes; Manufacturer Part Number: 691809320305; Category: Terminal Blocks; Match Code: WR-TBL; ComponentLink1Description: Website Link; ComponentLink1URL: https://www.we-online.com/redexpert/article/691809320305?ad; ComponentLink2Description: Datasheet Link; ComponentLink2URL: https://www.we-online.com/redexpert/spec/691809320305?ad; Mount: Through Hole Reflow; Operating Temperature Max: 115°C; Operating Temperature Min: -40°C; Packaging: Tape and Reel; Application: Screwless Push In; Number of Pins: 5; Number of Rows: 1; Orientation: 45° Cable Entry; Pitch: 3.81mm
footprint 691809320305
pins: 1, 2, 3, 4, 5

## 691809320306
designator J?  (value not drawn)
WR-TBL Series 8093 Screwless Push In 45° cable entry, THR, pitch 3.81mm, 6p; Manufacturer: Wurth Elektronik; Modularity: Yes; Manufacturer Part Number: 691809320306; Category: Terminal Blocks; Match Code: WR-TBL; ComponentLink1Description: Website Link; ComponentLink1URL: https://www.we-online.com/redexpert/article/691809320306?ad; ComponentLink2Description: Datasheet Link; ComponentLink2URL: https://www.we-online.com/redexpert/spec/691809320306?ad; Mount: Through Hole Reflow; Operating Temperature Max: 115°C; Operating Temperature Min: -40°C; Packaging: Tape and Reel; Application: Screwless Push In; Number of Pins: 6; Number of Rows: 1; Orientation: 45° Cable Entry; Pitch: 3.81mm
footprint 691809320306
pins: 1, 2, 3, 4, 5, 6

## 691809320307
designator J?  (value not drawn)
WR-TBL Series 8093 Screwless Push In 45° cable entry, THR, pitch 3.81mm, 7p; Manufacturer: Wurth Elektronik; Modularity: Yes; Manufacturer Part Number: 691809320307; Category: Terminal Blocks; Match Code: WR-TBL; ComponentLink1Description: Website Link; ComponentLink1URL: https://www.we-online.com/redexpert/article/691809320307?ad; ComponentLink2Description: Datasheet Link; ComponentLink2URL: https://www.we-online.com/redexpert/spec/691809320307?ad; Mount: Through Hole Reflow; Operating Temperature Max: 115°C; Operating Temperature Min: -40°C; Packaging: Tape and Reel; Application: Screwless Push In; Number of Pins: 7; Number of Rows: 1; Orientation: 45° Cable Entry; Pitch: 3.81mm
footprint 691809320307
pins: 1, 2, 3, 4, 5, 6, 7

## 691809320308
designator J?  (value not drawn)
WR-TBL Series 8093 Screwless Push In 45° cable entry, THR, pitch 3.81mm, 8p; Manufacturer: Wurth Elektronik; Modularity: Yes; Manufacturer Part Number: 691809320308; Category: Terminal Blocks; Match Code: WR-TBL; ComponentLink1Description: Website Link; ComponentLink1URL: https://www.we-online.com/redexpert/article/691809320308?ad; ComponentLink2Description: Datasheet Link; ComponentLink2URL: https://www.we-online.com/redexpert/spec/691809320308?ad; Mount: Through Hole Reflow; Operating Temperature Max: 115°C; Operating Temperature Min: -40°C; Packaging: Tape and Reel; Application: Screwless Push In; Number of Pins: 8; Number of Rows: 1; Orientation: 45° Cable Entry; Pitch: 3.81mm
footprint 691809320308
pins: 1, 2, 3, 4, 5, 6, 7, 8

## 691809320310
designator J?  (value not drawn)
WR-TBL Series 8093 Screwless Push In 45° cable entry, THR, pitch 3.81mm, 10p; Manufacturer: Wurth Elektronik; Modularity: Yes; Manufacturer Part Number: 691809320310; Category: Terminal Blocks; Match Code: WR-TBL; ComponentLink1Description: Website Link; ComponentLink1URL: https://www.we-online.com/redexpert/article/691809320310?ad; ComponentLink2Description: Datasheet Link; ComponentLink2URL: https://www.we-online.com/redexpert/spec/691809320310?ad; Mount: Through Hole Reflow; Operating Temperature Max: 115°C; Operating Temperature Min: -40°C; Packaging: Tape and Reel; Application: Screwless Push In; Number of Pins: 10; Number of Rows: 1; Orientation: 45° Cable Entry; Pitch: 3.81mm
footprint 691809320310
pins: 1, 2, 3, 4, 5, 6, 7, 8, 9, 10

## 691809320312
designator J?  (value not drawn)
WR-TBL Series 8093 Screwless Push In 45° cable entry, THR, pitch 3.81mm, 12p; Manufacturer: Wurth Elektronik; Modularity: Yes; Manufacturer Part Number: 691809320312; Category: Terminal Blocks; Match Code: WR-TBL; ComponentLink1Description: Website Link; ComponentLink1URL: https://www.we-online.com/redexpert/article/691809320312?ad; ComponentLink2Description: Datasheet Link; ComponentLink2URL: https://www.we-online.com/redexpert/spec/691809320312?ad; Mount: Through Hole Reflow; Operating Temperature Max: 115°C; Operating Temperature Min: -40°C; Packaging: Tape and Reel; Application: Screwless Push In; Number of Pins: 12; Number of Rows: 1; Orientation: 45° Cable Entry; Pitch: 3.81mm
footprint 691809320312
pins: 1, 2, 3, 4, 5, 6, 7, 8, 9, 10, 11, 12

## 691810100302
designator J?  (value not drawn)
WR-TBL Series 8101 Screwless Push In Vertical cable entry, THR, pitch 3.5mm, 2p; Manufacturer: Wurth Elektronik; Modularity: No; Manufacturer Part Number: 691810100302; Category: Terminal Blocks; Match Code: WR-TBL; ComponentLink1Description: Website Link; ComponentLink1URL: https://www.we-online.com/redexpert/article/691810100302?ad; ComponentLink2Description: Datasheet Link; ComponentLink2URL: https://www.we-online.com/redexpert/spec/691810100302?ad; Mount: Through Hole Reflow; Operating Temperature Max: 125°C; Operating Temperature Min: -40°C; Packaging: Tape and Reel; Application: Screwless Push In; Number of Pins: 2; Number of Rows: 1; Orientation: Vertical Cable Entry; Pitch: 3.5mm
footprint 691810100302
pins: 1, 2

## 691810100303
designator J?  (value not drawn)
WR-TBL Series 8101 Screwless Push In Vertical cable entry, THR, pitch 3.5mm, 3p; Manufacturer: Wurth Elektronik; Modularity: No; Manufacturer Part Number: 691810100303; Category: Terminal Blocks; Match Code: WR-TBL; ComponentLink1Description: Website Link; ComponentLink1URL: https://www.we-online.com/redexpert/article/691810100303?ad; ComponentLink2Description: Datasheet Link; ComponentLink2URL: https://www.we-online.com/redexpert/spec/691810100303?ad; Mount: Through Hole Reflow; Operating Temperature Max: 125°C; Operating Temperature Min: -40°C; Packaging: Tape and Reel; Application: Screwless Push In; Number of Pins: 3; Number of Rows: 1; Orientation: Vertical Cable Entry; Pitch: 3.5mm
footprint 691810100303
pins: 1, 2, 3

## 691810100304
designator J?  (value not drawn)
WR-TBL Series 8101 Screwless Push In Vertical cable entry, THR, pitch 3.5mm, 4p; Manufacturer: Wurth Elektronik; Modularity: No; Manufacturer Part Number: 691810100304; Category: Terminal Blocks; Match Code: WR-TBL; ComponentLink1Description: Website Link; ComponentLink1URL: https://www.we-online.com/redexpert/article/691810100304?ad; ComponentLink2Description: Datasheet Link; ComponentLink2URL: https://www.we-online.com/redexpert/spec/691810100304?ad; Mount: Through Hole Reflow; Operating Temperature Max: 125°C; Operating Temperature Min: -40°C; Packaging: Tape and Reel; Application: Screwless Push In; Number of Pins: 4; Number of Rows: 1; Orientation: Vertical Cable Entry; Pitch: 3.5mm
footprint 691810100304
pins: 1, 2, 3, 4

## 691810100305
designator J?  (value not drawn)
WR-TBL Series 8101 Screwless Push In Vertical cable entry, THR, pitch 3.5mm, 5p; Manufacturer: Wurth Elektronik; Modularity: No; Manufacturer Part Number: 691810100305; Category: Terminal Blocks; Match Code: WR-TBL; ComponentLink1Description: Website Link; ComponentLink1URL: https://www.we-online.com/redexpert/article/691810100305?ad; ComponentLink2Description: Datasheet Link; ComponentLink2URL: https://www.we-online.com/redexpert/spec/691810100305?ad; Mount: Through Hole Reflow; Operating Temperature Max: 125°C; Operating Temperature Min: -40°C; Packaging: Tape and Reel; Application: Screwless Push In; Number of Pins: 5; Number of Rows: 1; Orientation: Vertical Cable Entry; Pitch: 3.5mm
footprint 691810100305
pins: 1, 2, 3, 4, 5

## 691810100306
designator J?  (value not drawn)
WR-TBL Series 8101 Screwless Push In Vertical cable entry, THR, pitch 3.5mm, 6p; Manufacturer: Wurth Elektronik; Modularity: No; Manufacturer Part Number: 691810100306; Category: Terminal Blocks; Match Code: WR-TBL; ComponentLink1Description: Website Link; ComponentLink1URL: https://www.we-online.com/redexpert/article/691810100306?ad; ComponentLink2Description: Datasheet Link; ComponentLink2URL: https://www.we-online.com/redexpert/spec/691810100306?ad; Mount: Through Hole Reflow; Operating Temperature Max: 125°C; Operating Temperature Min: -40°C; Packaging: Tape and Reel; Application: Screwless Push In; Number of Pins: 6; Number of Rows: 1; Orientation: Vertical Cable Entry; Pitch: 3.5mm
footprint 691810100306
pins: 1, 2, 3, 4, 5, 6

## 691810100307
designator J?  (value not drawn)
WR-TBL Series 8101 Screwless Push In Vertical cable entry, THR, pitch 3.5mm, 7p; Manufacturer: Wurth Elektronik; Modularity: No; Manufacturer Part Number: 691810100307; Category: Terminal Blocks; Match Code: WR-TBL; ComponentLink1Description: Website Link; ComponentLink1URL: https://www.we-online.com/redexpert/article/691810100307?ad; ComponentLink2Description: Datasheet Link; ComponentLink2URL: https://www.we-online.com/redexpert/spec/691810100307?ad; Mount: Through Hole Reflow; Operating Temperature Max: 125°C; Operating Temperature Min: -40°C; Packaging: Tape and Reel; Application: Screwless Push In; Number of Pins: 7; Number of Rows: 1; Orientation: Vertical Cable Entry; Pitch: 3.5mm
footprint 691810100307
pins: 1, 2, 3, 4, 5, 6, 7

## 691810100308
designator J?  (value not drawn)
WR-TBL Series 8101 Screwless Push In Vertical cable entry, THR, pitch 3.5mm, 8p; Manufacturer: Wurth Elektronik; Modularity: No; Manufacturer Part Number: 691810100308; Category: Terminal Blocks; Match Code: WR-TBL; ComponentLink1Description: Website Link; ComponentLink1URL: https://www.we-online.com/redexpert/article/691810100308?ad; ComponentLink2Description: Datasheet Link; ComponentLink2URL: https://www.we-online.com/redexpert/spec/691810100308?ad; Mount: Through Hole Reflow; Operating Temperature Max: 125°C; Operating Temperature Min: -40°C; Packaging: Tape and Reel; Application: Screwless Push In; Number of Pins: 8; Number of Rows: 1; Orientation: Vertical Cable Entry; Pitch: 3.5mm
footprint 691810100308
pins: 1, 2, 3, 4, 5, 6, 7, 8

## 691810100310
designator J?  (value not drawn)
WR-TBL Series 8101 Screwless Push In Vertical cable entry, THR, pitch 3.5mm, 10p; Manufacturer: Wurth Elektronik; Modularity: No; Manufacturer Part Number: 691810100310; Category: Terminal Blocks; Match Code: WR-TBL; ComponentLink1Description: Website Link; ComponentLink1URL: https://www.we-online.com/redexpert/article/691810100310?ad; ComponentLink2Description: Datasheet Link; ComponentLink2URL: https://www.we-online.com/redexpert/spec/691810100310?ad; Mount: Through Hole Reflow; Operating Temperature Max: 125°C; Operating Temperature Min: -40°C; Packaging: Tape and Reel; Application: Screwless Push In; Number of Pins: 10; Number of Rows: 1; Orientation: Vertical Cable Entry; Pitch: 3.5mm
footprint 691810100310
pins: 1, 2, 3, 4, 5, 6, 7, 8, 9, 10

## 691810100312
designator J?  (value not drawn)
WR-TBL Series 8101 Screwless Push In Vertical cable entry, THR, pitch 3.5mm, 12p; Manufacturer: Wurth Elektronik; Modularity: No; Manufacturer Part Number: 691810100312; Category: Terminal Blocks; Match Code: WR-TBL; ComponentLink1Description: Website Link; ComponentLink1URL: https://www.we-online.com/redexpert/article/691810100312?ad; ComponentLink2Description: Datasheet Link; ComponentLink2URL: https://www.we-online.com/redexpert/spec/691810100312?ad; Mount: Through Hole Reflow; Operating Temperature Max: 125°C; Operating Temperature Min: -40°C; Packaging: Tape and Reel; Application: Screwless Push In; Number of Pins: 12; Number of Rows: 1; Orientation: Vertical Cable Entry; Pitch: 3.5mm
footprint 691810100312
pins: 1, 2, 3, 4, 5, 6, 7, 8, 9, 10, 11, 12

## 691810110302
designator J?  (value not drawn)
WR-TBL Series 8101 Screwless Push In Horizontal cable entry, THR, pitch 3.5mm, 2p; Manufacturer: Wurth Elektronik; Modularity: No; Manufacturer Part Number: 691810110302; Category: Terminal Blocks; Match Code: WR-TBL; ComponentLink1Description: Website Link; ComponentLink1URL: https://www.we-online.com/redexpert/article/691810110302?ad; ComponentLink2Description: Datasheet Link; ComponentLink2URL: https://www.we-online.com/redexpert/spec/691810110302?ad; Mount: Through Hole Reflow; Operating Temperature Max: 125°C; Operating Temperature Min: -40°C; Packaging: Tape and Reel; Application: Screwless Push In; Number of Pins: 2; Number of Rows: 1; Orientation: Horizontal Cable Entry; Pitch: 3.5mm
footprint 691810110302
pins: 1, 2

## 691810110303
designator J?  (value not drawn)
WR-TBL Series 8101 Screwless Push In Horizontal cable entry, THR, pitch 3.5mm, 3p; Manufacturer: Wurth Elektronik; Modularity: No; Manufacturer Part Number: 691810110303; Category: Terminal Blocks; Match Code: WR-TBL; ComponentLink1Description: Website Link; ComponentLink1URL: https://www.we-online.com/redexpert/article/691810110303?ad; ComponentLink2Description: Datasheet Link; ComponentLink2URL: https://www.we-online.com/redexpert/spec/691810110303?ad; Mount: Through Hole Reflow; Operating Temperature Max: 125°C; Operating Temperature Min: -40°C; Packaging: Tape and Reel; Application: Screwless Push In; Number of Pins: 3; Number of Rows: 1; Orientation: Horizontal Cable Entry; Pitch: 3.5mm
footprint 691810110303
pins: 1, 2, 3

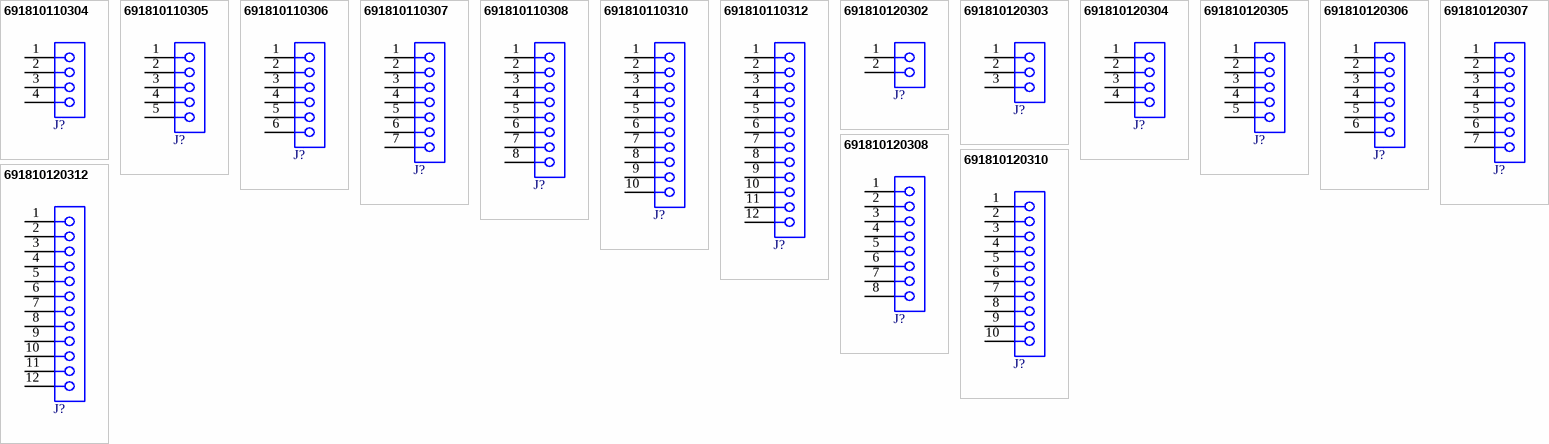
[diagram p42: symbols 691810110304 to 691810120312]